# EAGLE library part 74XX595 (library yapo)
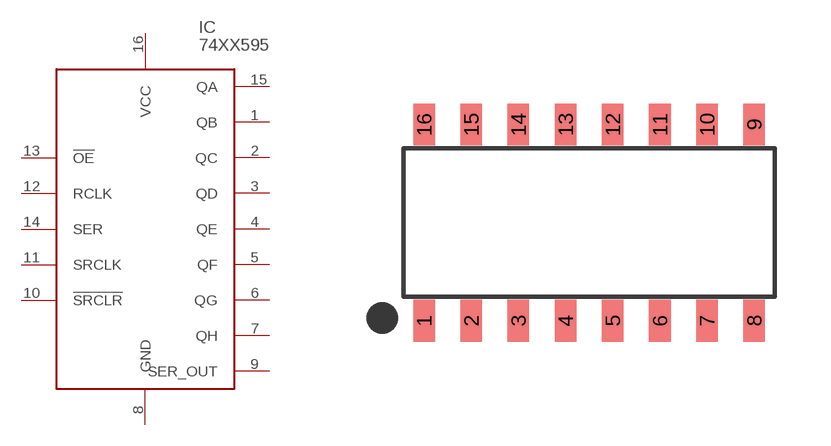
[diagram p45: symbol with the pads of SOIC-16; footprint SOIC-16]

Designator prefix IC

## 74XX595  [SOIC-16]
1  QB
2  QC
3  QD
4  QE
5  QF
6  QG
7  QH
8  GND
9  SER_OUT
10  !SRCLR!
11  SRCLK
12  RCLK
13  !OE!
14  SER
15  QA
16  VCC

## Footprint SOIC-16 (pad centres in mm)
smd 0.58 x 1.12: 1 -4.445,-2.64; 2 -3.175,-2.64; 3 -1.905,-2.64; 4 -0.635,-2.64; 5 0.635,-2.64; 6 1.905,-2.64; 7 3.175,-2.64; 8 4.445,-2.64; 9 4.445,2.64; 10 3.175,2.64; 11 1.905,2.64; 12 0.635,2.64; 13 -0.635,2.64; 14 -1.905,2.64; 15 -3.175,2.64; 16 -4.445,2.64